# Altium schematic symbol library CAP,Cer,47uF,6.3VDC,X5R,0805.Schlib: 1 symbol
Pins are listed as number, name and electrical type; pins without a type are passive.

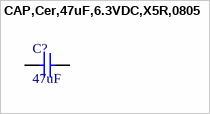
[diagram p0: symbol CAP,Cer,47uF,6.3VDC,X5R,0805]

## CAP,Cer,47uF,6.3VDC,X5R,0805
designator C?, comment 47uF
±20% 6.3V Ceramic Capacitor X5R 0805 (2012 Metric)
pins: 1, 2